# Altium integrated library Current Sensing Board.IntLib: 17 symbols
Pins are listed as number, name and electrical type; pins without a type are passive.

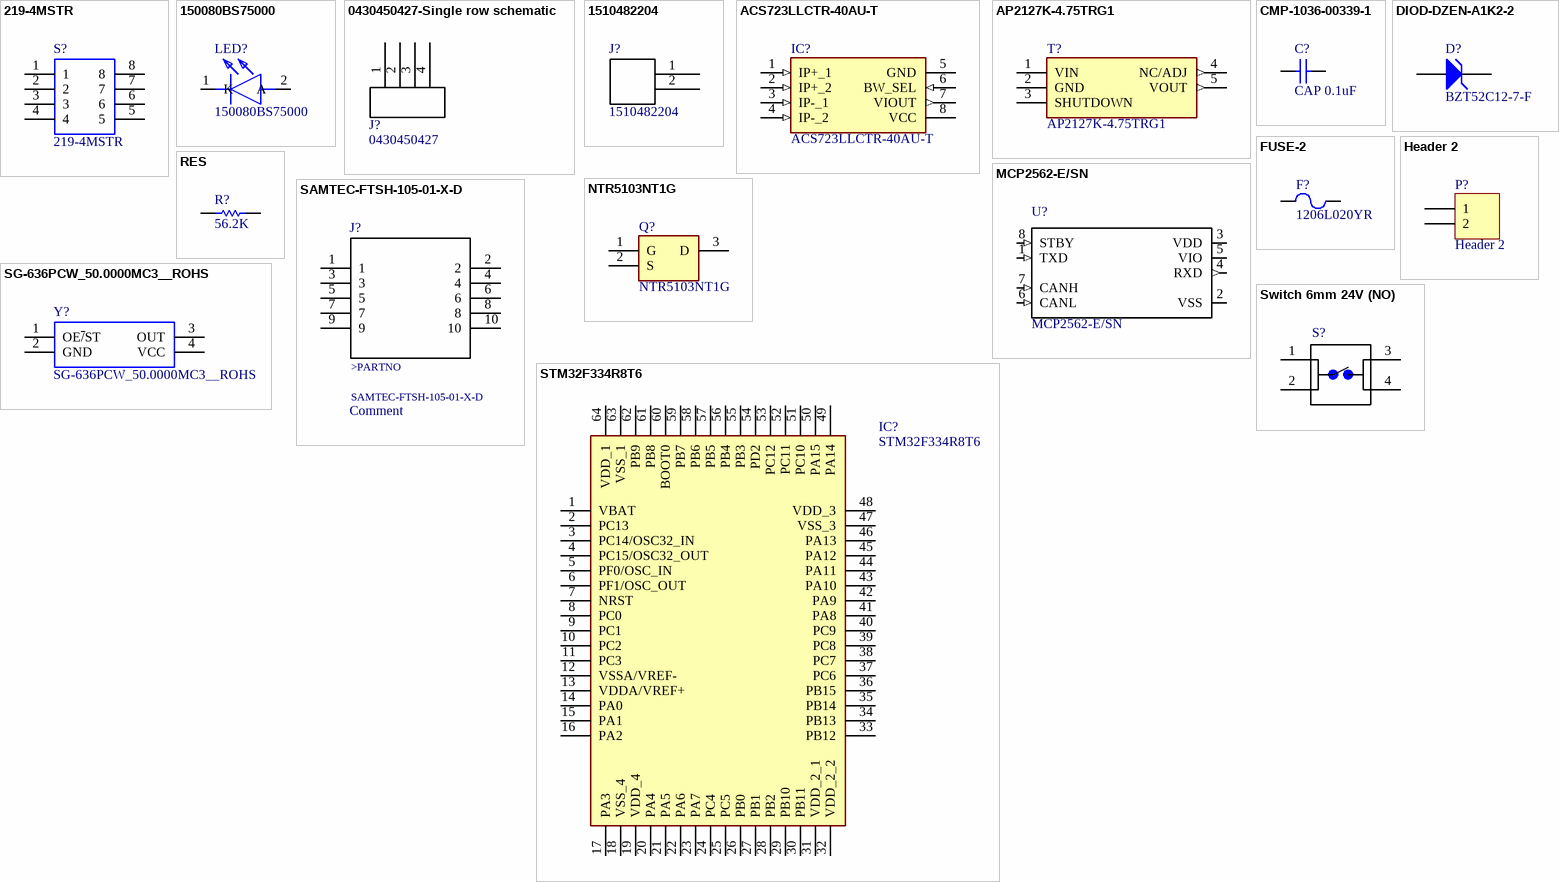
[diagram p0: symbols 219-4MSTR to Switch 6mm 24V (NO)]

## 219-4MSTR
designator S?
DIP Switches / SIP Switches SPST 4 switch sections; Manufacturer_Name: CTS; Geometry.Height: 3.85mm; Manufacturer_Part_Number: 219-4MSTR; RS Part Number: 1774368; RS Price/Stock: http://uk.rs-online.com/web/p/products/1774368; Arrow Part Number: 219-4MSTR; Arrow Price/Stock: https://www.arrow.com/en/products/219-4mstr/cts; Datasheet Link: https://www.ctscorp.com/wp-content/uploads/219.pdf
footprint SOP254P991X385-8N
pins: 1, 2, 3, 4, 5, 6, 7, 8

## 150080BS75000
designator LED?
LED; Manufacturer_Name: Wurth Elektronik; Datasheet Link: https://katalog.we-online.com/led/datasheet/150080BS75000.pdf; Height: 0.8mm; Manufacturer_Part_Number: 150080BS75000; Mouser Part Number: 710-150080BS75000; Mouser Price/Stock: https://www.mouser.com/Search/Refine.aspx?Keyword=710-150080BS75000; RS Part Number: 8154228P; RS Price/Stock: http://uk.rs-online.com/web/p/products/8154228P
footprint LEDC2012X80N
pins: 1 K, 2 A

## 0430450427-Single row schematic
designator J?, comment 0430450427
Molex micro-fit 3.0 dual row header. P/N 0430450427
footprint 0430450427 (Molex micro-fit 3.0 4 pos)
pins: 1, 2, 3, 4

## 1510482204
designator J?
Molex 6.5MM 2 pin connector, used for power connections. P/N 1510482204 and similar models.
footprint 1510482204 (Molex 6.5MM 2 pin connector, used for power connections. P/N 1510482204 and similar models.)
pins: 1, 2

## ACS723LLCTR-40AU-T
designator IC?
Integrated Circuit; Manufacturer_Name: Allegro Microsystems; Datasheet Link: http://www.allegromicro.com/~/media/Files/Datasheets/ACS723-Datasheet.ashx; Height: 1.75mm; Manufacturer_Part_Number: ACS723LLCTR-40AU-T
footprint SOT127P600X175-8N
pins: 1 IP+_1 (in), 2 IP+_2 (in), 3 IP-_1 (in), 4 IP-_2 (in), 5 GND (power), 6 BW_SEL (in), 7 VIOUT (out), 8 VCC (power)

## AP2127K-4.75TRG1
designator T?
Transformer; Manufacturer_Name: Diodes Inc.; Datasheet Link: https://www.diodes.com/assets/Datasheets/AP2127.pdf; Height: 1.45mm; Manufacturer_Part_Number: AP2127K-4.75TRG1
footprint SOT95P282X145-5N
pins: 1 VIN (power), 2 GND (power), 3 SHUTDOWN, 4 NC/ADJ (out), 5 VOUT (out)

## CMP-1036-00339-1
designator C?, comment CAP 0.1uF
CAP 2.7pF 50V ±0.1pF 0805 (2012 Metric) Thickness 0.75mm SMD; Case-EIA: 0805; Case-Metric: 2012; Tolerance: Â±0.1pF; Rated Voltage: 50 V; Value: 2.7pF; Max Thickness: 0.75 mm; Technology: SMT
footprint CAPC0805(2012)75_L (Chip Capacitor, Body 2.0x1.2mm, Height 0.75mm, IPC High Density)
footprint CAPC0805(2012)75_N (Chip Capacitor, Body 2.0x1.2mm, Height 0.75mm, IPC Medium Density)
footprint CAPC0805(2012)75_M (Chip Capacitor, Body 2.0x1.2mm, Height 0.75mm, IPC Low Density)
pins: 1, 2
1 alternate drawing of the same symbol

## DIOD-DZEN-A1K2-2
designator D?, comment BZT52C12-7-F
Surface Mount Zener Diode, 12 V, 2-Pin 2.7 x 1.55 x 1.45 mm SOD123, -65 to 125 degC, RoHS, Tape and Reel; Manufacturer: Diodes Inc; Power Rating: 500 mW; Maximum Zener Impedance f: 1kHz ZZT=25 Ohm; Zener Voltage Range: 11.4 to 12.7 V; Maximum Reverse Current: 0.1 uA; PartNumber: BZT52C12-7-F; PackageDescription: 2-Pin SOD123, Body 2.7 x 1.55 mm, Height 1.45 mm; DatasheetVersion: Rev. 37 - 2; ComponentLink1URL: http://www.diodes.com/; Mounting Technology: Surface Mount; ComponentLink3URL: http://www.diodes.com/datasheets/ds18004.pdf; ComponentLink3Description: Package Specification; ComponentLink1Description: Manufacturer URL; Packing: Tape and Reel; PackageReference: SOD123-2; PackageVersion: Rev. 37 - 2; ComponentLink2Description: Datasheet; ComponentLink2URL: http://www.diodes.com/datasheets/ds18004.pdf; Operating Temperature Range: -65 to 150 degC; RoHS: TRUE
footprint DIOD-SOD123-2_V (SOD123, 2-Leads, Body 2.7x1.55mm, Height 1.45mm)
pins: 1 A, 2 K

## FUSE-2
designator F?, comment 1206L020YR
PTC Resettable Fuse, 100 A, 0.6W, -40 to 85 degC, 2-Pin SMD, RoHS, Tape and Reel; Manufacturer: Littelfuse; Hold Current [Ih]: 0.2A; Working Voltage-Max: 24V; Trip Current: 0.42A; Operating Temp Range: -40to+85°C; Size: 1206; Manufacturer URL: http://www.littelfuse.com/; Datasheet Version: 02/2015; Mounting Technology: SurfaceMount; Datasheet URL: http://download.siliconexpert.com/pdfs/2015/4/10/21/0/43/983/ltf_/manual/3609284120511713636092822459449496littelfuse_ptc_1206l_datasheet.pdf.pdf.pdf; Package Description: 2-Pin Surface Mount Device, Body 3.2 x 1.65 mm; Package Reference: 1206L020YR
footprint LFUS-1206L020YR_V (SMD, 2-Leads, Body 3.2x1.65mm)
pins: 1, 2

## Header 2
designator P?
Header, 2-Pin; LatestRevisionDate: 17-Jul-2002; LatestRevisionNote: Re-released for DXP Platform.; Publisher: Altium Limited
footprint HDR1X2 (Connector; Header; 2 Position)
signal-integrity model Connector
pins: 1, 2

## MCP2562-E/SN
designator U?
Microchip MCP2562-E/SN, CAN Transceiver 1MBps 1-channel IEC 61000-4-2, 8-Pin SOIC; Price: None; MF: Microchip; SnapEDA_Link: https://www.snapeda.com/parts/MCP2562-E/SN/Microchip/view-part/?ref=snap; MP: MCP2562-E/SN; Availability: Unavailable; Package: SO-8 Microchip; Value: *
footprint SOIC127P600X175-8N
pins: 1 TXD (in), 2 VSS (power), 3 VDD (power), 4 RXD (out), 5 VIO (power), 6 CANL (in), 7 CANH (in), 8 STBY (in)

## NTR5103NT1G
designator Q?
N-MOSFET; Manufacturer_Name: ON Semiconductor; Datasheet Link: https://componentsearchengine.com/Datasheets/1/NTR5103NT1G.pdf; Height: 1.01mm; Manufacturer_Part_Number: NTR5103NT1G; Mouser Part Number: 863-NTR5103NT1G; Mouser Price/Stock: https://www.mouser.com/Search/Refine.aspx?Keyword=863-NTR5103NT1G; RS Part Number: 1841331; RS Price/Stock: http://uk.rs-online.com/web/p/products/1841331
footprint SOT95P237X101-3N
pins: 1 G, 2 S, 3 D

## RES
designator R?, comment 56.2K
RES SMD 150K OHM 1% 1/8W 0805; Manufacturer: Panasonic; Part Number: ERJ-6ENF1503V; Datasheet: http://industrial.panasonic.com/cdbs/www-data/pdf/RDA0000/AOA0000C86.pdf
footprint RESC2013X70X40LL20T20 (Chip Resistor, 2-Leads, Body 2.00x1.25mm, IPC High Density)
footprint RESC2013X70X40NL20T20 (Chip Resistor, 2-Leads, Body 2.00x1.25mm, IPC Medium Density)
footprint RESC2013X70X40ML20T20 (Chip Resistor, 2-Leads, Body 2.00x1.25mm, IPC Low Density)
pins: 1, 2
1 alternate drawing of the same symbol

## SAMTEC-FTSH-105-01-X-D
designator J?, comment Comment
SAMTEC-FTSH-105-01-X-D. Shrouded 10-pin header with .05 in pitch.
footprint SAMTEC-FTSH-105-01-X-D (SAMTEC-FTSH-105-01-X-D Shrouded .05in pitch header)
pins: 1, 2, 3, 4, 5, 6, 7, 8, 9, 10
text: >PARTNO

## SG-636PCW_50.0000MC3__ROHS
designator Y?
Standard Clock Oscillators 50MHz 3.3Volt 100ppm -20C +70C; Manufacturer_Name: Epson Timing; Manufacturer_Part_Number: SG-636PCW 50.0000MC3: ROHS; RS Part Number: *; RS Price/Stock: *; Arrow Part Number: SG-636PCW 50.0000MC3: ROHS; Arrow Price/Stock: *; Datasheet Link: http://www.mouser.com/ds/2/137/G-636PCE_en-1003252.pdf
footprint SG-636
pins: 1 OE~{/}ST, 2 GND, 3 OUT, 4 VCC (power)

## STM32F334R8T6
designator IC?
Integrated Circuit; Manufacturer_Name: STMicroelectronics; Datasheet Link: http://www.st.com/content/ccc/resource/technical/document/datasheet/d1/cd/3d/18/a2/2c/4e/d0/DM00097745.pdf/files/DM00097745.pdf/jcr:content/translations/en.DM00097745.pdf; Height: 1.6mm; Manufacturer_Part_Number: STM32F334R8T6; Mouser Part Number: 511-STM32F334R8T6; Mouser Price/Stock: https://www.mouser.com/Search/Refine.aspx?Keyword=511-STM32F334R8T6
footprint QFP50P1200X1200X160-64N
pins: 1 VBAT, 2 PC13, 3 PC14/OSC32_IN, 4 PC15/OSC32_OUT, 5 PF0/OSC_IN, 6 PF1/OSC_OUT, 7 NRST, 8 PC0, 9 PC1, 10 PC2, 11 PC3, 12 VSSA/VREF-, 13 VDDA/VREF+, 14 PA0, 15 PA1, 16 PA2, 17 PA3, 18 VSS_4, 19 VDD_4, 20 PA4, 21 PA5, 22 PA6, 23 PA7, 24 PC4, 25 PC5, 26 PB0, 27 PB1, 28 PB2, 29 PB10, 30 PB11, 31 VDD_2_1, 32 VDD_2_2, 33 PB12, 34 PB13, 35 PB14, 36 PB15, 37 PC6, 38 PC7, 39 PC8, 40 PC9, 41 PA8, 42 PA9, 43 PA10, 44 PA11, 45 PA12, 46 PA13, 47 VSS_3, 48 VDD_3, 49 PA14, 50 PA15, 51 PC10, 52 PC11, 53 PC12, 54 PD2, 55 PB3, 56 PB4, 57 PB5, 58 PB6, 59 PB7, 60 BOOT0, 61 PB8, 62 PB9, 63 VSS_1, 64 VDD_1

## Switch 6mm 24V (NO)
designator S?, comment 1825910-7  (value not drawn)
FSM4JAH=6MM TACT SWITCH, HIGH TEMP; MF: TE Connectivity; Contact_Current_Rating: 50 mA; Configuration_Pole-Throw: Single Pole - Single Throw; Package: None; Digi-Key_Part_Number: 450-1804-ND; Digi-Key_Purchase_URL: https://www.digikey.com/product-detail/en/te-connectivity-alcoswitch-switches/1825910-7/450-1804-ND/1731414?utm_source=snapeda&utm_medium=aggregator&utm_campaign=symbol; MP: 1825910-7; SnapEDA_Link: https://www.snapeda.com/parts/1825910-7/TE%20Connectivity%20ALCOSWITCH%20Switches/view-part/?ref=snap; EU_RoHS_Compliance: Compliant; TE_purchase_URL: https://www.te.com/usa-en/product-1825910-7.html?te_bu=Cor&te_type=disp&te_campaign=seda_glo_cor-seda-global-disp-prtnr-fy19-seda-model-bom-cta_sma-317_1&elqCampaignId=32493; Value: *
footprint Switch 6mm 24V (NO)
pins: 1, 2, 3, 4